# Altium schematic symbol library MIC5504-3.3YM5-TR.SchLib: 1 symbol
Pins are listed as number, name and electrical type; pins without a type are passive.

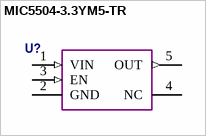
[diagram p0: symbol MIC5504-3.3YM5-TR]

## MIC5504-3.3YM5-TR
designator U?  (value not drawn)
LDO Voltage Regulators Single 300mA LDO; Manufacturer Part Number: MIC5504-3.3YM5-TR
pins: 1 VIN (in), 2 GND (power), 3 EN (in), 4 NC, 5 OUT (out)